# EAGLE library part ATSAMD21G1XA-A (library D21_v39)
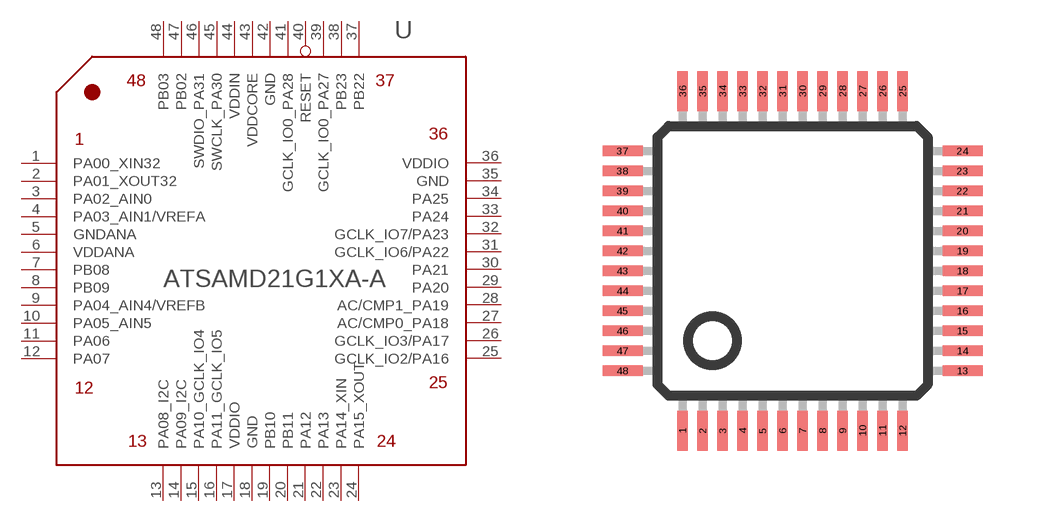
[diagram p3: symbol with the pads of LQFP48_W; footprint LQFP48_W]

Designator prefix U

## ATSAMD21G1XA-A  [LQFP48_W]
1  PA00_XIN32
2  PA01_XOUT32
3  PA02_AIN0
4  PA03_AIN1/VREFA
5  GNDANA  pwr
6  VDDANA  pwr
7  PB08
8  PB09
9  PA04_AIN4/VREFB
10  PA05_AIN5
11  PA06
12  PA07
13  PA08_I2C
14  PA09_I2C
15  PA10_GCLK_IO4
16  PA11_GCLK_IO5
17  VDDIO  pwr
18  GND  pwr
19  PB10
20  PB11
21  PA12
22  PA13
23  PA14_XIN
24  PA15_XOUT
25  GCLK_IO2/PA16
26  GCLK_IO3/PA17
27  AC/CMP0_PA18
28  AC/CMP1_PA19
29  PA20
30  PA21
31  GCLK_IO6/PA22
32  GCLK_IO7/PA23
33  PA24
34  PA25
35  GND  pwr
36  VDDIO  pwr
37  PB22
38  PB23
39  GCLK_IO0_PA27
40  RESET
41  GCLK_IO0_PA28
42  GND  pwr
43  VDDCORE  pwr
44  VDDIN  pwr
45  SWCLK_PA30
46  SWDIO_PA31
47  PB02
48  PB03

## Footprint LQFP48_W (pad centres in mm)
smd 0.27 x 1: 1 -2.75,-4.25; 2 -2.25,-4.25; 3 -1.75,-4.25; 4 -1.25,-4.25; 5 -0.75,-4.25; 6 -0.25,-4.25; 7 0.25,-4.25; 8 0.75,-4.25; 9 1.25,-4.25; 10 1.75,-4.25; 11 2.25,-4.25; 12 2.75,-4.25; 25 2.75,4.25; 26 2.25,4.25; 27 1.75,4.25; 28 1.25,4.25; 29 0.75,4.25; 30 0.25,4.25; 31 -0.25,4.25; 32 -0.75,4.25; 33 -1.25,4.25; 34 -1.75,4.25; 35 -2.25,4.25; 36 -2.75,4.25
smd 1 x 0.27: 13 4.25,-2.75; 14 4.25,-2.25; 15 4.25,-1.75; 16 4.25,-1.25; 17 4.25,-0.75; 18 4.25,-0.25; 19 4.25,0.25; 20 4.25,0.75; 21 4.25,1.25; 22 4.25,1.75; 23 4.25,2.25; 24 4.25,2.75; 37 -4.25,2.75; 38 -4.25,2.25; 39 -4.25,1.75; 40 -4.25,1.25; 41 -4.25,0.75; 42 -4.25,0.25; 43 -4.25,-0.25; 44 -4.25,-0.75; 45 -4.25,-1.25; 46 -4.25,-1.75; 47 -4.25,-2.25; 48 -4.25,-2.75